# EAGLE library part HFD2RELAY (library jason_eagle6)
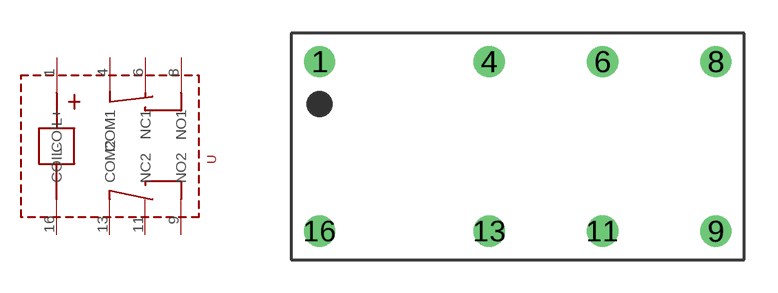
[diagram p52: symbol with the pads of HFD2RELAY; footprint HFD2RELAY]

Designator prefix -

## HFD2RELAY  [HFD2RELAY]
1  COIL+
4  COM1
6  NC1
8  NO1
9  NO2
11  NC2
13  COM2
16  COIL-

## Footprint HFD2RELAY (pad centres in mm)
drill 0.9: 1 -8.89,3.81; 4 -1.27,3.81; 6 3.81,3.81; 8 8.89,3.81; 9 8.89,-3.81; 11 3.81,-3.81; 13 -1.27,-3.81; 16 -8.89,-3.81